# Altium schematic symbol library Led.SchLib: 53 symbols
Pins are listed as number, name and electrical type; pins without a type are passive.

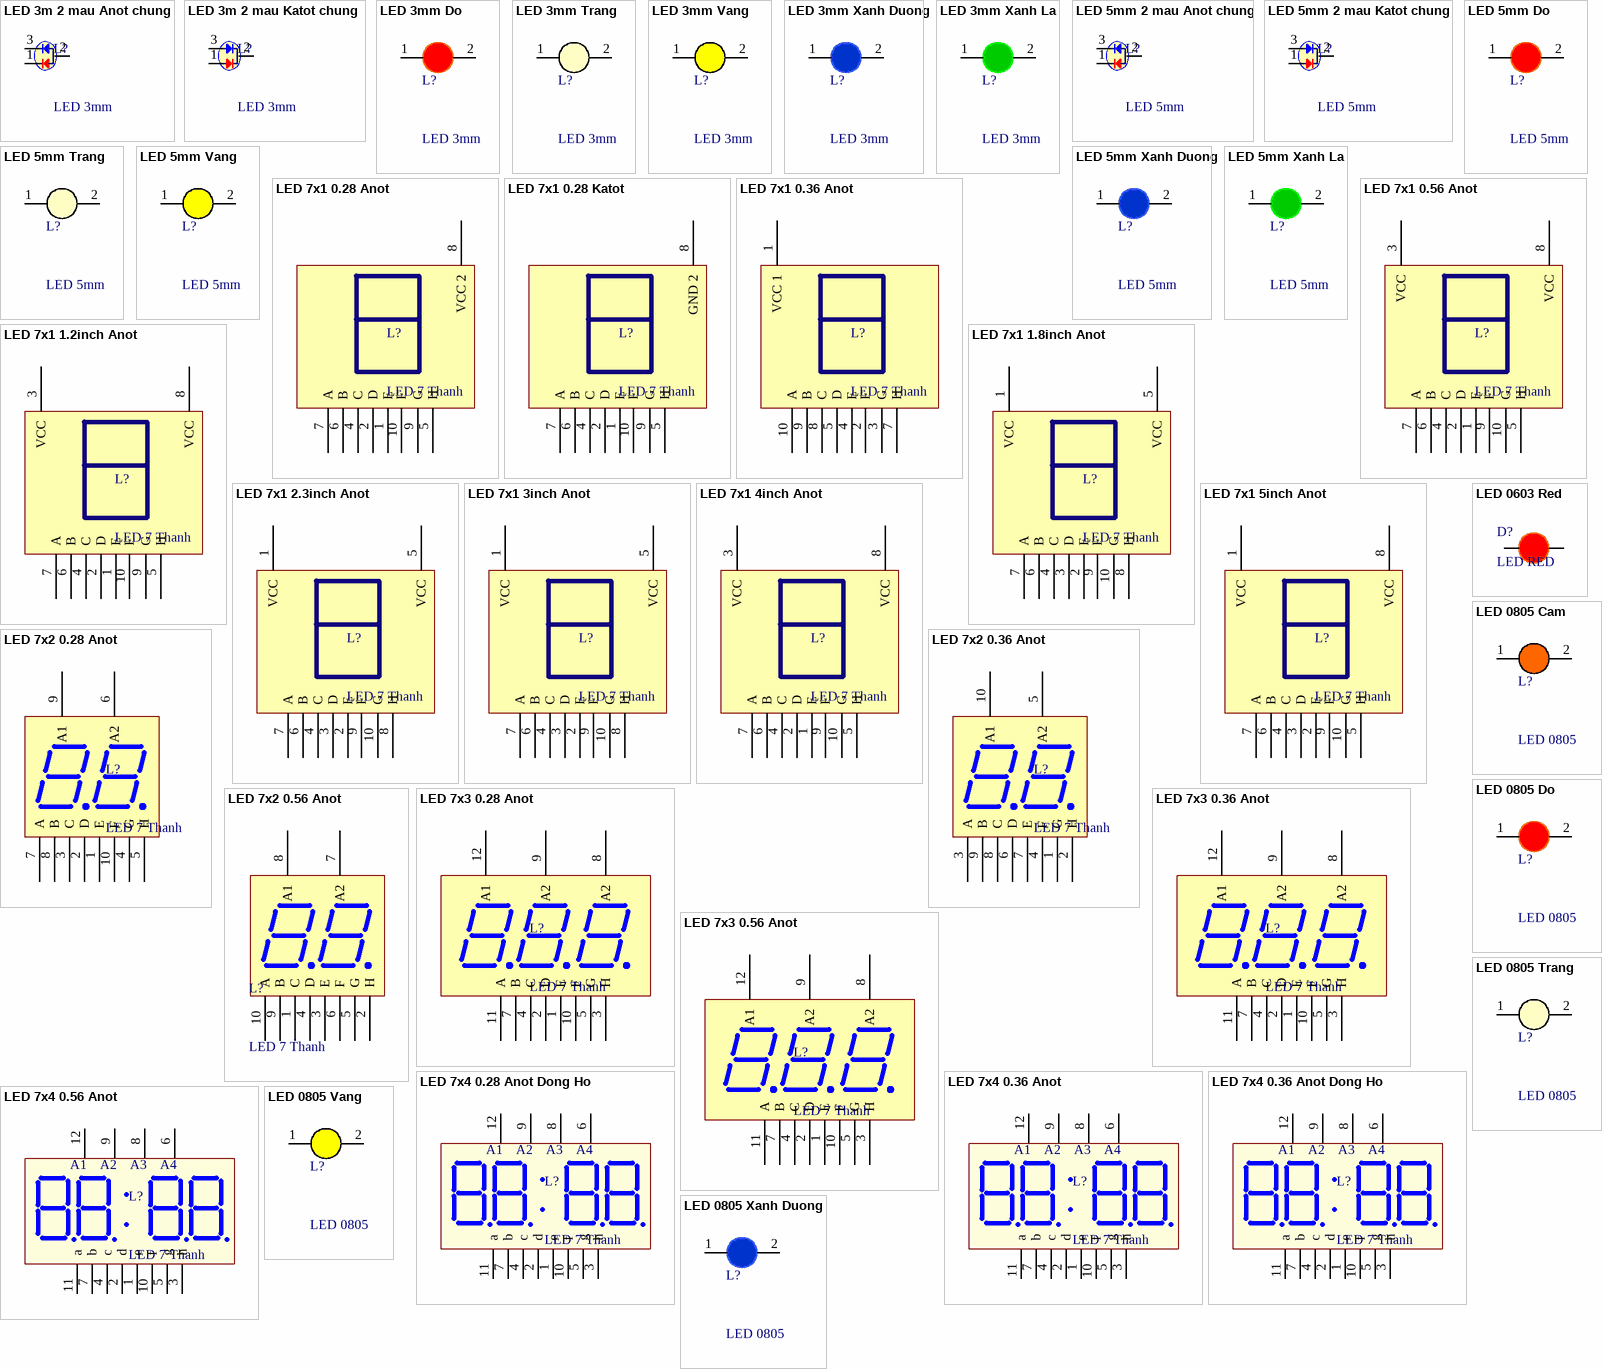
[diagram p0: symbols LED 3m 2 mau Anot chung to LED 0805 Xanh Duong]

## LED 3m 2 mau Anot chung
designator L?, comment LED 3mm
Cắm; Don_Vi: Con; Ma_Hang: MH005371; Ten_Linh_Kien: Led 3MM 2 Mầu Anot Sáng Đục (5c); Ghi_Chu: *; Kieu_Chan: *; Chung_Loai: Cắm
footprint LED-3MM 2 MAU (LED 3 PIN, 3ly Two colour)
pins: 1 Katot 2, 2 ANOT, 3 Katot 1

## LED 3m 2 mau Katot chung
designator L?, comment LED 3mm
Cắm; Don_Vi: Con; Ma_Hang: MH008685; Ten_Linh_Kien: Led 3MM 2 Mầu Katot Sáng Đục (5c); Ghi_Chu: *; Kieu_Chan: *; Chung_Loai: Cắm
footprint LED-3MM 2 MAU (LED 3 PIN, 3ly Two colour)
pins: 1 Anot 2, 2 Katot, 3 Anot 1

## LED 3mm Do
designator L?, comment LED 3mm
Cắm; Don_Vi: Con; Ma_Hang: MH003892; Ten_Linh_Kien: Led 3MM Phủ Đỏ (10c); Ghi_Chu: *; Kieu_Chan: *; Chung_Loai: Cắm
footprint LED-3MM-RED
pins: 1 A, 2 K

## LED 3mm Trang
designator L?, comment LED 3mm
Cắm; Don_Vi: Con; Ma_Hang: MH009001; Ten_Linh_Kien: LED 3MM Trắng SS (1000c); Ghi_Chu: *; Kieu_Chan: *; Chung_Loai: Cắm
footprint LED-3MM-WHITE (LED 2 PIN, 3ly Only colour)
pins: 1 A, 2 K

## LED 3mm Vang
designator L?, comment LED 3mm
Cắm; Don_Vi: Con; Ma_Hang: MH003893; Ten_Linh_Kien: Led 3MM Phủ Vàng (10c); Ghi_Chu: *; Kieu_Chan: *; Chung_Loai: Cắm
footprint LED-3MM-YELLOW
pins: 1 A, 2 K

## LED 3mm Xanh Duong
designator L?, comment LED 3mm
Cắm; Don_Vi: Con; Ma_Hang: MH009003; Ten_Linh_Kien: LED 3MM Xanh Dương SS (1000c); Ghi_Chu: *; Kieu_Chan: *; Chung_Loai: Cắm
footprint LED-3MM-BLUE
pins: 1 A, 2 K

## LED 3mm Xanh La
designator L?, comment LED 3mm
Cắm; Don_Vi: Con; Ma_Hang: MH001054; Ten_Linh_Kien: Led 3MM Phủ Xanh (10c); Ghi_Chu: *; Kieu_Chan: *; Chung_Loai: Cắm
footprint LED-3MM-GREEN
pins: 1 A, 2 K

## LED 5mm 2 mau Anot chung
designator L?, comment LED 5mm
Cắm; Don_Vi: Con; Ma_Hang: MH001231; Ten_Linh_Kien: Led 5MM 2 Mầu Anot Xanh Đỏ (10c); Ghi_Chu: *; Kieu_Chan: *; Chung_Loai: Cắm
footprint LED-5MM 2 MAU (LED 3 PIN, 5 ly , Two colour)
pins: 1 D, 2 Katot, 3 X

## LED 5mm 2 mau Katot chung
designator L?, comment LED 5mm
Cắm; Don_Vi: Con; Ma_Hang: MH001547; Ten_Linh_Kien: Led 5MM 2 Mầu Katot Xanh Đỏ (10c); Ghi_Chu: *; Kieu_Chan: *; Chung_Loai: Cắm
footprint LED-5MM 2 MAU (LED 3 PIN, 5 ly , Two colour)
pins: 1 D, 2 Katot, 3 X

## LED 5mm Do
designator L?, comment LED 5mm
Cắm; Don_Vi: Con; Ma_Hang: MH008967; Ten_Linh_Kien: Led 5MM Phủ Đỏ (1000c); Ghi_Chu: *; Kieu_Chan: *; Chung_Loai: Cắm
footprint LED-5MM-RED (LED 2 PIN, 5 ly , Only colour,pin to pin 100mil)
pins: 1 A, 2 K

## LED 5mm Trang
designator L?, comment LED 5mm
Cắm; Don_Vi: Con; Ma_Hang: MH008983; Ten_Linh_Kien: Led 5MM Trắng Đục (1000c); Ghi_Chu: *; Kieu_Chan: *; Chung_Loai: Cắm
footprint LED-5MM-WHITE (LED 2 PIN, 5 ly , Only colour, pin to pin 110mil)
pins: 1 A, 2 K

## LED 5mm Vang
designator L?, comment LED 5mm
Cắm; Don_Vi: Con; Ma_Hang: MH008968; Ten_Linh_Kien: Led 5MM Phủ Vàng (1000c); Ghi_Chu: *; Kieu_Chan: *; Chung_Loai: Cắm
footprint LED-5MM-Yellow (LED 2 PIN, 5 ly , Only colour,pin to pin 100mil)
pins: 1 A, 2 K

## LED 5mm Xanh Duong
designator L?, comment LED 5mm
Cắm; Don_Vi: Con; Ma_Hang: MH008987; Ten_Linh_Kien: Led 5MM Xanh Dương Đục (1000c); Ghi_Chu: *; Kieu_Chan: *; Chung_Loai: Cắm
footprint LED-5MM-BLUE (LED 2 PIN, 5 ly , Only colour, pin to pin 110mil)
pins: 1 A, 2 K

## LED 5mm Xanh La
designator L?, comment LED 5mm
Cắm; Don_Vi: Con; Ma_Hang: MH008969; Ten_Linh_Kien: LED 5MM Phủ Xanh (1000c); Ghi_Chu: *; Kieu_Chan: *; Chung_Loai: Cắm
footprint LED-5MM-Green (LED 2 PIN, 5 ly , Only colour,pin to pin 100mil)
pins: 1 A, 2 K

## LED 7x1 0.28 Anot
designator L?, comment LED 7 Thanh
Dán; Don_Vi: Con; Ma_Hang: MH009706; Ten_Linh_Kien: Led 7 0.28 1 Số Anot Sáng Đỏ; Ghi_Chu: *; Kieu_Chan: *; Chung_Loai: Dán
footprint LED 7x1 0.28
pins: 1 E, 2 D, 4 C, 5 H, 6 B, 7 A, 8 VCC 2, 9 G, 10 F

## LED 7x1 0.28 Katot
designator L?, comment LED 7 Thanh
Dán; Don_Vi: Con; Ma_Hang: MH009707; Ten_Linh_Kien: Led 7 0.28 1 Số Katot Sáng Đỏ; Ghi_Chu: *; Kieu_Chan: *; Chung_Loai: Dán
footprint LED 7x1 0.28
pins: 1 E, 2 D, 4 C, 5 H, 6 B, 7 A, 8 GND 2, 9 G, 10 F

## LED 7x1 0.36 Anot
designator L?, comment LED 7 Thanh
Dán; Don_Vi: Con; Ma_Hang: MH001607; Ten_Linh_Kien: Led 7 0.36 1 Số Anot (Sáng Đỏ); Ghi_Chu: *; Kieu_Chan: *; Chung_Loai: Dán
footprint LED 7x1 0.36
pins: 1 VCC 1, 2 F, 3 G, 4 E, 5 D, 7 H, 8 C, 9 B, 10 A

## LED 7x1 0.56 Anot
designator L?, comment LED 7 Thanh
Dán; Don_Vi: Con; Ma_Hang: MH000834; Ten_Linh_Kien: Led 7 0.56 1 Số Anot (Sáng Đỏ); Ghi_Chu: *; Kieu_Chan: *; Chung_Loai: Dán
footprint LED 7x1 0.56
pins: 1 E, 2 D, 3 VCC, 4 C, 5 H, 6 B, 7 A, 8 VCC, 9 F, 10 G

## LED 7x1 1.2inch Anot
designator L?, comment LED 7 Thanh
Dán; Don_Vi: Con; Ma_Hang: MH004107; Ten_Linh_Kien: Led 7 1.0 1 Số Anot (Sáng Đỏ) 25x35MM; Ghi_Chu: *; Kieu_Chan: *; Chung_Loai: Dán
footprint LED7SEG-1.2INCH
pins: 1 E, 2 D, 3 VCC, 4 C, 5 H, 6 B, 7 A, 8 VCC, 9 G, 10 F

## LED 7x1 1.8inch Anot
designator L?, comment LED 7 Thanh
Dán; Don_Vi: Con; Ma_Hang: MH002516; Ten_Linh_Kien: Led 7 1.8 1 số Anot (Sáng Đỏ); Ghi_Chu: *; Kieu_Chan: *; Chung_Loai: Dán
footprint LED7SEG_1.8INCH
pins: 1 VCC, 2 E, 3 D, 4 C, 5 VCC, 6 B, 7 A, 8 H, 9 F, 10 G

## LED 7x1 2.3inch Anot
designator L?, comment LED 7 Thanh
Dán; Don_Vi: Con; Ma_Hang: MH000901; Ten_Linh_Kien: Led 7 2.3 1 Số Anot (Sáng Đỏ); Ghi_Chu: *; Kieu_Chan: *; Chung_Loai: Dán
footprint LED7SEG_2.3inch (Dán)
pins: 1 VCC, 2 E, 3 D, 4 C, 5 VCC, 6 B, 7 A, 8 H, 9 F, 10 G

## LED 7x1 3inch Anot
designator L?, comment LED 7 Thanh
Dán; Don_Vi: Con; Ma_Hang: MH002445; Ten_Linh_Kien: Led 7 3.0 1 Số Anot Màu Đỏ 7x9CM; Ghi_Chu: *; Kieu_Chan: *; Chung_Loai: Dán
footprint LED7SEG_3.0INCH
pins: 1 VCC, 2 E, 3 D, 4 C, 5 VCC, 6 B, 7 A, 8 H, 9 F, 10 G

## LED 7x1 4inch Anot
designator L?, comment LED 7 Thanh
Dán; Don_Vi: Con; Ma_Hang: MH002851; Ten_Linh_Kien: Led 7 4.0 1 Số Anot ( Màu Đỏ) ( 9x12CM); Ghi_Chu: *; Kieu_Chan: *; Chung_Loai: Dán
footprint LED7SEG_4.0INCH
pins: 1 E, 2 D, 3 VCC, 4 C, 5 H, 6 B, 7 A, 8 VCC, 9 F, 10 G

## LED 7x1 5inch Anot
designator L?, comment LED 7 Thanh
Dán; Don_Vi: Con; Ma_Hang: MH002941; Ten_Linh_Kien: Led 7 5.0 1 Số Anot ( Màu Đỏ) ( 10x14CM); Ghi_Chu: *; Kieu_Chan: *; Chung_Loai: Dán
footprint LED7SEG_5.0INCH
pins: 1 VCC, 2 E, 3 D, 4 C, 5 H, 6 B, 7 A, 8 VCC, 9 F, 10 G

## LED 7x2 0.28 Anot
designator L?, comment LED 7 Thanh
Dán; Don_Vi: Con; Ma_Hang: MH003645; Ten_Linh_Kien: Led 7 0.28 2 Số Anot ( Màu Đỏ); Ghi_Chu: *; Kieu_Chan: *; Chung_Loai: Dán
pins: 1 E, 2 D, 3 C, 4 G, 5 H, 6 A2, 7 A, 8 B, 9 A1, 10 F

## LED 7x2 0.36 Anot
designator L?, comment LED 7 Thanh
Dán; Don_Vi: Con; Ma_Hang: MH001044; Ten_Linh_Kien: Led 7 0.36 2 Số Anot ( Sáng Đỏ); Ghi_Chu: *; Kieu_Chan: *; Chung_Loai: Dán
footprint LED 7x2 0.36 (LED, 7-Segment Display, 9.2 mm, Dual Digit; 10 Leads; Row Space 10.7 mm; Pitch 2.54 mm)
pins: 1 G, 2 H, 3 A, 4 F, 5 A2, 6 D, 7 E, 8 C, 9 B, 10 A1

## LED 7x2 0.56 Anot
designator L?, comment LED 7 Thanh
Dán; Don_Vi: Con; Ma_Hang: MH001040; Ten_Linh_Kien: Led 7 0.56 2 Số Anot (Sáng Đỏ; Ghi_Chu: *; Kieu_Chan: *; Chung_Loai: Dán
footprint LED 7x2 0.56
pins: 1 C, 2 H, 3 E, 4 D, 5 G, 6 F, 7 A2, 8 A1, 9 B, 10 A

## LED 7x3 0.28 Anot
designator L?, comment LED 7 Thanh
Dán; Don_Vi: Con; Ma_Hang: MH003647; Ten_Linh_Kien: Led 7 0.28 3 Số Anot ( Màu Đỏ); Ghi_Chu: *; Kieu_Chan: *; Chung_Loai: Dán
footprint LED 7x3 0.28
pins: 1 E, 2 D, 3 H, 4 C, 5 G, 7 B, 8 A2, 9 A2, 10 F, 11 A, 12 A1

## LED 7x3 0.36 Anot
designator L?, comment LED 7 Thanh
Dán; Don_Vi: Con; Ma_Hang: MH001046; Ten_Linh_Kien: Led 7 0.36 3 Số Anot ( Sáng Đỏ); Ghi_Chu: *; Kieu_Chan: *; Chung_Loai: Dán
footprint LED 7x3 0.36
pins: 1 E, 2 D, 3 H, 4 C, 5 G, 7 B, 8 A2, 9 A2, 10 F, 11 A, 12 A1

## LED 7x3 0.56 Anot
designator L?, comment LED 7 Thanh
Dán; Don_Vi: Con; Ma_Hang: MH001042; Ten_Linh_Kien: Led 7 0.56 3 Số Anot (Sáng Đỏ); Ghi_Chu: *; Kieu_Chan: *; Chung_Loai: Dán
footprint LED 7x3 0.56
pins: 1 E, 2 D, 3 H, 4 C, 5 G, 7 B, 8 A2, 9 A2, 10 F, 11 A, 12 A1

## LED 7x4 0.28 Anot Dong Ho
designator L?, comment LED 7 Thanh
Dán; Don_Vi: Con; Ma_Hang: MH003649; Ten_Linh_Kien: Led 7 0.28 4 Số Anot ( Màu Đỏ); Ghi_Chu: *; Kieu_Chan: *; Chung_Loai: Dán
pins: 1 e, 2 d, 3 h, 4 c, 5 g, 6 V4, 7 b, 8 V3, 9 V2, 10 f, 11 a, 12 V1
text: A1; A2; A3; A4

## LED 7x4 0.36 Anot
designator L?, comment LED 7 Thanh
Dán; Don_Vi: Con; Ma_Hang: MH001048; Ten_Linh_Kien: Led 7 0.36 4 Số Anot (Sáng Đỏ); Ghi_Chu: *; Kieu_Chan: *; Chung_Loai: Dán
footprint LED 7x4 0.36
pins: 1 e, 2 d, 3 h, 4 c, 5 g, 6 V4, 7 b, 8 V3, 9 V2, 10 f, 11 a, 12 V1
text: A1; A2; A3; A4

## LED 7x4 0.36 Anot Dong Ho
designator L?, comment LED 7 Thanh
Dán; Don_Vi: Con; Ma_Hang: MH010178; Ten_Linh_Kien: Led Đồng Hồ 0.36 Anot Sáng Đỏ 3462AB(BH)-R; Ghi_Chu: *; Kieu_Chan: *; Chung_Loai: Dán
pins: 1 e, 2 d, 3 h, 4 c, 5 g, 6 V4, 7 b, 8 V3, 9 V2, 10 f, 11 a, 12 V1
text: A1; A2; A3; A4

## LED 7x4 0.56 Anot
designator L?, comment LED 7 Thanh
Dán; Don_Vi: Con; Ma_Hang: MH000898; Ten_Linh_Kien: Led 7 0.56 4 Số Anot (Sáng Đỏ); Ghi_Chu: *; Kieu_Chan: *; Chung_Loai: Dán
footprint LED 7x4 0.56
pins: 1 e, 2 d, 3 h, 4 c, 5 g, 6 V4, 7 b, 8 V3, 9 V2, 10 f, 11 a, 12 V1
text: A1; A2; A3; A4

## LED 0603 Red
designator D?, comment LED RED
pins: 1 A, 2 K

## LED 0805 Cam
designator L?, comment LED 0805
Dán; Don_Vi: Con; Ma_Hang: MH002328; Ten_Linh_Kien: LED 0805 Màu Cam ( Orange); Ghi_Chu: *; Kieu_Chan: *; Chung_Loai: Dán
footprint LED-0805-Orange
pins: 1 A, 2 K

## LED 0805 Do
designator L?, comment LED 0805
Dán; Don_Vi: Con; Ma_Hang: MH000897; Ten_Linh_Kien: LED 0805 Màu Đỏ (Red); Ghi_Chu: *; Kieu_Chan: *; Chung_Loai: Dán
footprint LED-0805-Red
pins: 1 A, 2 K

## LED 0805 Trang
designator L?, comment LED 0805
Dán; Don_Vi: Con; Ma_Hang: MH002946; Ten_Linh_Kien: LED 0805 Màu Trắng ( White); Ghi_Chu: *; Kieu_Chan: *; Chung_Loai: Dán
footprint LED-0805-Yellow
pins: 1 A, 2 K

## LED 0805 Vang
designator L?, comment LED 0805
Dán; Don_Vi: Con; Ma_Hang: MH002329; Ten_Linh_Kien: LED 0805 Màu Vàng ( Yellow); Ghi_Chu: *; Kieu_Chan: *; Chung_Loai: Dán
footprint LED-0805-Yellow
pins: 1 A, 2 K

## LED 0805 Xanh Duong
designator L?, comment LED 0805
Dán; Don_Vi: Con; Ma_Hang: MH002327; Ten_Linh_Kien: LED 0805 Màu Xanh Dương (Blue); Ghi_Chu: *; Kieu_Chan: *; Chung_Loai: Dán
footprint LED-0805-Blue
pins: 1 A, 2 K

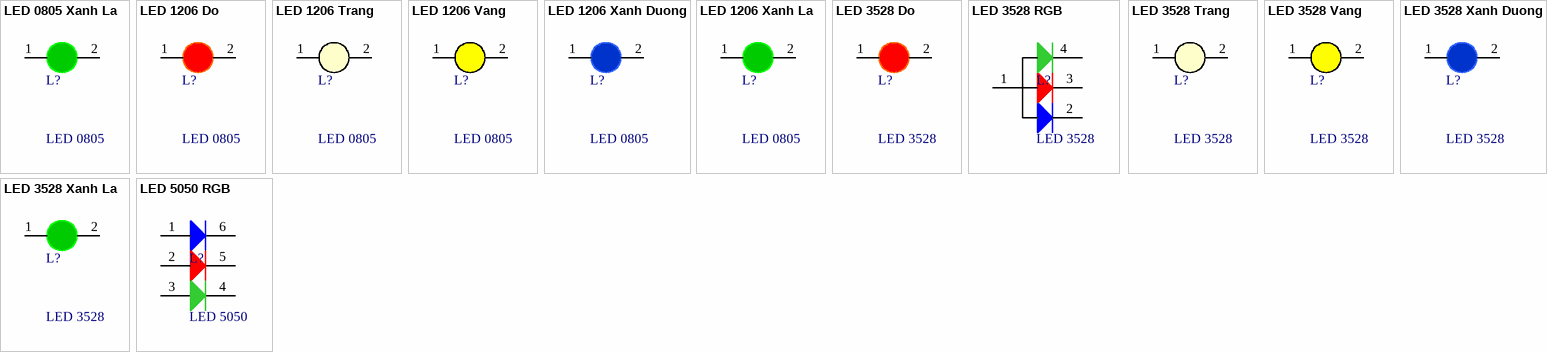
[diagram p1: symbols LED 0805 Xanh La to LED 5050 RGB]

## LED 0805 Xanh La
designator L?, comment LED 0805
Dán; Don_Vi: Con; Ma_Hang: MH002326; Ten_Linh_Kien: LED 0805 Màu Xanh Lá (Green); Ghi_Chu: *; Kieu_Chan: *; Chung_Loai: Dán
footprint LED-0805-Green
pins: 1 A, 2 K

## LED 1206 Do
designator L?, comment LED 0805
Dán; Don_Vi: Con; Ma_Hang: MH002334; Ten_Linh_Kien: LED1206 Màu Đỏ (Red); Ghi_Chu: *; Kieu_Chan: *; Chung_Loai: Dán
footprint LED-1206-Red
pins: 1 A, 2 K

## LED 1206 Trang
designator L?, comment LED 0805
Dán; Don_Vi: Con; Ma_Hang: MH002332; Ten_Linh_Kien: LED1206 Màu Trắng (White); Ghi_Chu: *; Kieu_Chan: *; Chung_Loai: Dán
footprint LED-1206-Yellow
pins: 1 A, 2 K

## LED 1206 Vang
designator L?, comment LED 0805
Dán; Don_Vi: Con; Ma_Hang: MH002331; Ten_Linh_Kien: LED1206 Màu Vàng (Yellow); Ghi_Chu: *; Kieu_Chan: *; Chung_Loai: Dán
footprint LED-1206-Yellow
pins: 1 A, 2 K

## LED 1206 Xanh Duong
designator L?, comment LED 0805
Dán; Don_Vi: Con; Ma_Hang: MH002333; Ten_Linh_Kien: LED1206 Màu Xanh Dương (Blue); Ghi_Chu: *; Kieu_Chan: *; Chung_Loai: Dán
footprint LED-1206-Blue (Compoment SMD 120x60mil)
pins: 1 A, 2 K

## LED 1206 Xanh La
designator L?, comment LED 0805
Dán; Don_Vi: Con; Ma_Hang: MH002947; Ten_Linh_Kien: LED1206 Màu Xanh Lá (Green); Ghi_Chu: *; Kieu_Chan: *; Chung_Loai: Dán
footprint LED-1206-Green
pins: 1 A, 2 K

## LED 3528 Do
designator L?, comment LED 3528
Dán; Don_Vi: Con; Ma_Hang: MH005543; Ten_Linh_Kien: LED3528 Màu Đỏ; Ghi_Chu: *; Kieu_Chan: *; Chung_Loai: Dán
footprint LED-3528-RED
pins: 1 A, 2 K

## LED 3528 RGB
designator L?, comment LED 3528
Dán; Don_Vi: Con; Ma_Hang: MH007160; Ten_Linh_Kien: LED3528 RGB; Ghi_Chu: *; Kieu_Chan: *; Chung_Loai: Dán
footprint LED RGB 3528 (Chip LED, 4-Leads, Body 2.8x3.5mm (max), Pitch 1.42mm, IPC Medium Density)
pins: 1, 2, 3, 4

## LED 3528 Trang
designator L?, comment LED 3528
Dán; Don_Vi: Con; Ma_Hang: MH005544; Ten_Linh_Kien: LED3528 Màu Trắng; Ghi_Chu: *; Kieu_Chan: *; Chung_Loai: Dán
footprint LED-3528-WHITE
pins: 1 A, 2 K

## LED 3528 Vang
designator L?, comment LED 3528
Dán; Don_Vi: Con; Ma_Hang: MH005545; Ten_Linh_Kien: LED3528 Màu Vàng; Ghi_Chu: *; Kieu_Chan: *; Chung_Loai: Dán
footprint LED-3528-YELLOW
pins: 1 A, 2 K

## LED 3528 Xanh Duong
designator L?, comment LED 3528
Dán; Don_Vi: Con; Ma_Hang: MH005546; Ten_Linh_Kien: LED3528 Màu Xanh Dương; Ghi_Chu: *; Kieu_Chan: *; Chung_Loai: Dán
footprint LED-3528-BLUE
pins: 1 A, 2 K

## LED 3528 Xanh La
designator L?, comment LED 3528
Dán; Don_Vi: Con; Ma_Hang: MH005547; Ten_Linh_Kien: LED3528 Màu Xanh Lá; Ghi_Chu: *; Kieu_Chan: *; Chung_Loai: Dán
footprint LED-3528-GREEN
pins: 1 A, 2 K

## LED 5050 RGB
designator L?, comment LED 5050
Dán; Don_Vi: Con; Ma_Hang: MH004716; Ten_Linh_Kien: LED 5050 RGB; Ghi_Chu: *; Kieu_Chan: *; Chung_Loai: Dán
footprint LED RGB 5050
pins: 1, 2, 3, 4, 5, 6